# Altium footprint library MLACHL_L.PCBLIB: 254 footprints (part 1 of 16)
Each footprint in its own frame and in the unit in brackets; x right, y up, seen from the top. Pads: shape width x height; smd on the part's side, far side on the other; paste and mask are expansions set on the pad; w line width, h text height; cw(c..) or ccw(c..) is an arc to the next point about the centre after c.
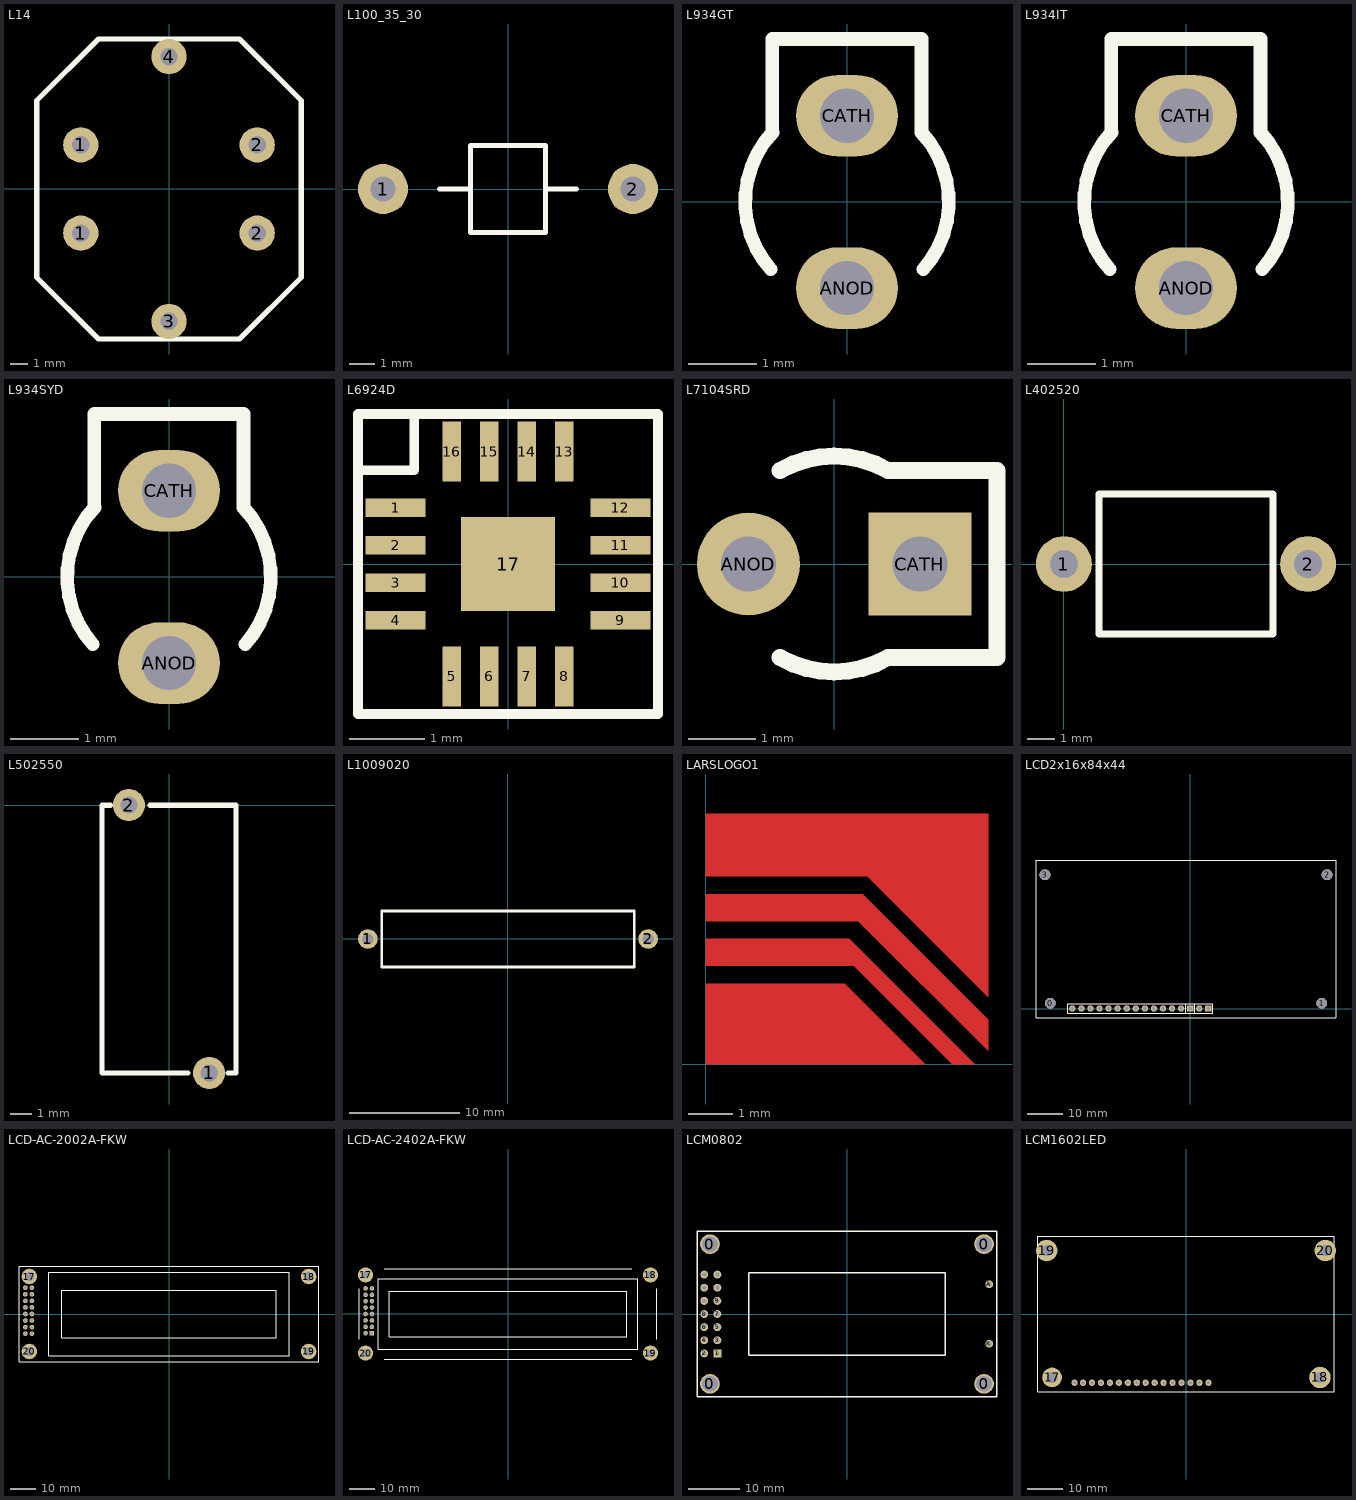
[diagram p0: the footprints below, top view; thin cyan lines are the x and y axes]

## L14 [mil]
pads (6):
  round 80 hole 39.37: 1(-200.49,-100.1) 1(-200.49,99.9) 2(199.51,-100.1) 2(199.51,99.9) 3(-0.49,-300.1) 4(-0.49,299.9)
TopOverlay:
  lines w12: -300.49,-200.1 -160.49,-340.1 159.51,-340.1 299.51,-200.1 299.51,199.9 159.51,339.9 -160.49,339.9 -300.49,199.9 -300.49,-200.1

## L100_35_30 [mm]
pads (2):
  round 2 hole 1: 1(-5,0) 2(5,0)
TopOverlay:
  lines w0.2: -2.75,0 -1.5,0 ; 1.5,0 2.75,0 ; -1.5,-1.75 1.5,-1.75 1.5,1.75 -1.5,1.75 -1.5,-1.75
3D body: height 3.49, standoff 0, extent -1.5,-1.75 1.5,1.743
3D body: height 2.15, standoff 1.35, extent 1.5,-0.4 5.4,0.398
3D body: height 2.05, standoff -3, extent 4.6,-0.4 5.397,0.398
3D body: height 2.05, standoff -3, extent -5.397,-0.398 -4.6,0.4
3D body: height 2.15, standoff 1.35, extent -5.4,-0.398 -1.5,0.4

## L934GT [mm]
pads (2):
  oval 1.5x1.2 hole 0.8: ANOD(0,-1.27) CATH(0,1.27)
TopOverlay:
  lines w0.2: -1.123,-0.995 cw(c0,0) -1.097,1.023 -1.1,1.023 -1.1,2.4 1.097,2.4 1.097,1.023 cw(c0,0) 1.123,-0.995
3D body: height 3.7, standoff -1.5, extent -0.2,-1.5 0.2,-1.1
3D body: height 6.5, standoff 3.5, extent -1.5,-1.5 1.484,1.487
3D body: height 5, standoff 2, extent -1.5,-1.5 1.488,1.494
3D body: height 3.7, standoff -1.5, extent -0.2,1.1 0.2,1.5

## L934IT [mm]
pads (2):
  oval 1.5x1.2 hole 0.8: ANOD(0,-1.27) CATH(0,1.27)
TopOverlay:
  lines w0.2: -1.123,-0.995 cw(c0,0) -1.097,1.023 -1.1,1.023 -1.1,2.4 1.097,2.4 1.097,1.023 cw(c0,0) 1.123,-0.995
3D body: height 3.7, standoff -1.5, extent -0.2,1.1 0.2,1.5
3D body: height 5, standoff 2, extent -1.5,-1.5 1.488,1.494
3D body: height 6.5, standoff 3.5, extent -1.5,-1.5 1.484,1.487
3D body: height 3.7, standoff -1.5, extent -0.2,-1.5 0.2,-1.1

## L934SYD [mm]
pads (2):
  oval 1.5x1.2 hole 0.8: ANOD(0,-1.27) CATH(0,1.27)
TopOverlay:
  lines w0.2: -1.123,-0.995 cw(c0,0) -1.097,1.023 -1.1,1.023 -1.1,2.4 1.097,2.4 1.097,1.023 cw(c0,0) 1.123,-0.995
3D body: height 3.7, standoff -1.5, extent -0.2,1.1 0.2,1.5
3D body: height 5, standoff 2, extent -1.5,-1.5 1.488,1.494
3D body: height 6.5, standoff 3.5, extent -1.5,-1.5 1.484,1.487
3D body: height 3.7, standoff -1.5, extent -0.2,-1.5 0.2,-1.1

## L6924D [mm]
pads (17):
  rect 0.8x0.25 smd: 1(-1.5,0.75) 2(-1.5,0.25) 3(-1.5,-0.25) 4(-1.5,-0.75) 9(1.5,-0.75) 10(1.5,-0.25) 11(1.5,0.25) 12(1.5,0.75)
  rect 0.25x0.8 smd: 5(-0.75,-1.5) 6(-0.25,-1.5) 7(0.25,-1.5) 8(0.75,-1.5) 13(0.75,1.5) 14(0.25,1.5) 15(-0.25,1.5) 16(-0.75,1.5)
  rect 1.25x1.25 smd: 17(0,0)
TopOverlay:
  lines w0.127: -2,1.25 -1.25,1.25 -1.25,2 ; -2,-2 -2,2 2,2 2,-2 -2,-2

## L7104SRD [mil]
pads (2):
  round 60 hole 32: ANOD(-50,0)
  rect 60x60 hole 32: CATH(50,0)
TopOverlay:
  lines w10: -31.5,-54.55 ccw(c0,0) 31.5,-54.55 95,-54.55 95,0 95,54.55 31.5,54.55 ccw(c0,0) -31.5,54.55
3D body: height 118.11, standoff 0, extent -60,-10 -40,10
3D body: height 118.11, standoff 0, extent 40,-10 60,10
3D body: height 299.21, standoff 185.04, extent -60,-60 53.58,53.69
3D body: height 242.13, standoff 118.11, extent -60,-59.88 53.72,54.07

## L402520 [mil]
pads (2):
  round 80 hole 40: 1(0,0) 2(350,0)
TopOverlay:
  lines w10: 50,-100 50,100 300,100 300,-100 50,-100
3D body: height 114.05, standoff 82.68, extent 241.89,-16.43 360,15
3D body: height 110.24, standoff -78.74, extent 333.63,-16.43 365,15
3D body: height 110.24, standoff -78.74, extent -15,-15 16.37,16.43
3D body: height 114.05, standoff 82.68, extent -10,-15 108.11,16.43
3D body: height 196.07, standoff 0, extent 55,-98.23 291.22,98.23

## L502550 [mil]
pads (2):
  round 60 hole 32: 1(75,-500) 2(-75,0)
TopOverlay:
  lines w10: -110,0 -125,0 -125,-500 35,-500 ; -35,0 125,0 125,-500 110,-500

## L1009020 [mil]
pads (2):
  round 70 hole 40: 1(-500,0) 2(500,0)
TopOverlay:
  lines w10: -450,-100 450,-100 450,100 -450,100 -450,-100

## LARSLOGO1 [mm]
height 2.54
TopLayer:
  region: 0,0 4.9,0 3.1,1.8 0,1.8
  region: 0,2.8 3.2,2.8 6,0 5.5,0 3.3,2.2 0,2.2
  region: 0,3.2 3.4,3.2 6.3,0.3 6.3,1 3.5,3.8 0,3.8
  region: 0,4.2 3.6,4.2 6.3,1.5 6.3,5.6 0,5.6
TopSolder:
  rectangle: -0.2,-0.2 6.5,5.8

## LCD2x16x84x44 [mil]
pads (20):
  round 120 hole 120: 0(-1542.52,57.48) 1(1449.61,57.48) 2(1508.66,1474.8) 3(-1601.58,1474.8)
  rect 70x70 hole 40: 1(0,0) 1(200,0)
  round 70 hole 40: 2(-100,0) 2(100,0) 3(-200,0) 4(-300,0) 5(-400,0) 6(-500,0) 7(-600,0) 8(-700,0) 9(-800,0) 10(-900,0) 11(-1000,0) 12(-1100,0) 13(-1200,0) 14(-1300,0)
TopOverlay:
  lines w10: -50,-50 -50,50 ; 50,-50 50,50 ; 50,-50 250,-50 250,50 50,50 ; 50,-50 50,50 ; 50,-50 -1350,-50 -1350,50 50,50 ; -1700,-100 1607.09,-100 1607.09,1632.28 -1700,1632.28 -1700,-100

## LCD-AC-2002A-FKW [mm]
pads (20):
  round 1.8 hole 1: 1(-53,-7.6) 2(-55.54,-7.6) 3(-53,-5.06) 4(-55.54,-5.06) 5(-53,-2.52) 6(-55.54,-2.52) 7(-53,0.02) 8(-55.54,0.02) 9(-53,2.56) 10(-55.54,2.56) 11(-53,5.1) 12(-55.54,5.1) 13(-53,7.64) 14(-55.54,7.64) 15(-53,10.18) 16(-55.54,10.18)
  round 6 hole 3.5: 17(-54,14.5) 18(54,14.5) 19(54,-14.5) 20(-54,-14.5)
TopOverlay:
  lines w0.3: -58,-18.5 58,-18.5 58,18.5 -58,18.5 -58,-18.5 ; -46.5,-16.1 46.5,-16.1 46.5,16.1 -46.5,16.1 -46.5,-16.1 ; -41.4,-9.2 41.4,-9.2 41.4,9.2 -41.4,9.2 -41.4,-9.2
3D body: height 4.6, standoff 3, extent -58,-18.5 58,18.5
3D body: height 11, standoff 4.6, extent -46.5,-16.1 46.5,16.1
3D body: height 13, standoff 10, extent -46.5,-16.1 46.5,16.1
3D body: height 13, standoff 10, extent -46.5,-16.1 -41.4,9.2
3D body: height 12, standoff 4.6, extent -41.4,-9.2 41.4,9.2

## LCD-AC-2402A-FKW [mm]
pads (20):
  rect 1.8x1.8 hole 1: 1(-53.96,-7.62)
  round 1.8 hole 1: 2(-56.5,-7.62) 3(-53.96,-5.08) 4(-56.5,-5.08) 5(-53.96,-2.54) 6(-56.5,-2.54) 7(-53.96,0) 8(-56.5,0) 9(-53.96,2.54) 10(-56.5,2.54) 11(-53.96,5.08) 12(-56.5,5.08) 13(-53.96,7.62) 14(-56.5,7.62) 15(-53.96,10.16) 16(-56.5,10.16)
  round 6 hole 3: 17(-56.5,15.5) 18(56.5,15.5) 19(56.5,-15.5) 20(-56.5,-15.5)
TopOverlay:
  lines w0.3: -59,-10 -59,10 ; -49,-18 49,-18 ; -49,18 49,18 ; 59,-10 59,10 ; -51.4,-14.05 51.4,-14.05 51.4,14.05 -51.4,14.05 -51.4,-14.05 ; -47.2,-9.1 47.2,-9.1 47.2,9.1 -47.2,9.1 -47.2,-9.1
3D body: height 4.6, standoff 3, extent -59,-18 59,18
3D body: height 11, standoff 4.6, extent -51.4,-14.05 51.4,14.05
3D body: height 13, standoff 10, extent -51.4,-14.05 51.4,14.05
3D body: height 13, standoff 10, extent -51.4,-14.05 -47.2,9.2
3D body: height 12, standoff 4.6, extent -47.2,-9.2 47.2,9.2

## LCM0802 [mil]
pads (20):
  round 150 hole 120: 0(-1043.31,-531.5) 0(-1043.31,531.5) 0(1043.31,-531.5) 0(1043.31,531.5)
  rect 60x60 hole 32: 1(-986.61,-300)
  round 60 hole 32: 2(-1086.61,-300) 3(-986.61,-200) 4(-1086.61,-200) 5(-986.61,-100) 6(-1086.61,-100) 7(-986.61,0) 8(-1086.61,0) 9(-986.61,100) 10(-1086.61,100) 11(-986.61,200) 12(-1086.61,200) 13(-986.61,300) 14(-1086.61,300) A(1082.68,226.38) K(1082.68,-226.38)
TopOverlay:
  lines w10: -1141.73,-629.92 -1141.73,629.92 1141.73,629.92 1141.73,-629.92 -1141.73,-629.92 ; -748.03,-314.96 748.03,-314.96 748.03,314.96 -748.03,314.96 -748.03,-314.96

## LCM1602LED [mil]
pads (20):
  round 70 hole 40: 1(50,-767.72) 2(-50,-767.72) 3(-150,-767.72) 4(-250,-767.72) 5(-350,-767.72) 6(-450,-767.72) 7(-550,-767.72) 8(-650,-767.72) 9(-750,-767.72) 10(-850,-767.72) 11(-950,-767.72) 12(-1050,-767.72) 13(-1150,-767.72) 14(-1245,-767.72) 15(150,-767.72) 16(250,-767.72)
  round 220 hole 120: 17(-1496.06,-708.66)
  round 240 hole 120: 18(1496.06,-708.66) 19(-1555.12,708.66) 20(1555.12,708.66)
TopOverlay:
  lines w8: -1653.54,-866.14 1653.54,-866.14 1653.54,866.14 -1653.54,866.14 -1653.54,-866.14